# Altium schematic symbol library YGOLib.SchLib: 14 symbols
Pins are listed as number, name and electrical type; pins without a type are passive.

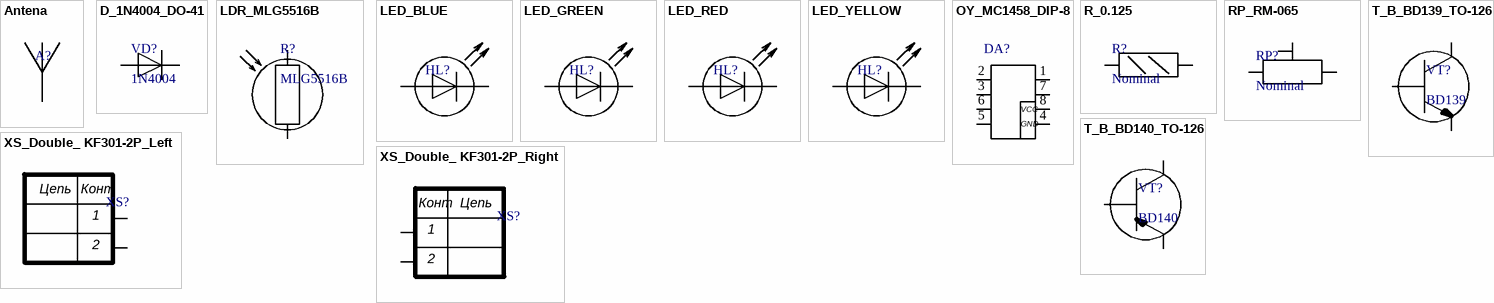
[diagram p0: symbols Antena to XS_Double_ KF301-2P_Right]

## Antena
designator A?
footprint Antenna_Omnisirectional
pins: 1 (power)

## D_1N4004_DO-41
designator VD?, comment 1N4004
footprint DO-41
pins: 1 (power), 2 (power)

## LDR_MLG5516B
designator R?, comment MLG5516B
footprint LDR_MLG5516B
pins: 1 (power), 2 (power)

## LED_BLUE
designator HL?
footprint LED_BLUE
pins: 1 (power), 2 (power)

## LED_GREEN
designator HL?
footprint LED_GREEN
pins: 1 (power), 2 (power)

## LED_RED
designator HL?
footprint LED_RED
pins: 1 (power), 2 (power)

## LED_YELLOW
designator HL?
footprint LED_YELLOW
pins: 1 (power), 2 (power)

## OY_MC1458_DIP-8
designator DA?
footprint DIP-8
pins: 1 (power), 2 (power), 3 (power), 4 GND (power), 5 (power), 6 (power), 7 (power), 8 VCC (power)

## R_0.125
designator R?, comment Nominal
footprint R_0.125
pins: 1 (power), 2 (power)

## RP_RM-065
designator RP?, comment Nominal
footprint RP_RM-065
pins: 1 (power), 2 (power), 3 (power)

## T_B_BD139_TO-126
designator VT?, comment BD139
footprint TO-136_BD139
pins: 1 Э (power), 2 К (power), 3 Б (power)

## T_B_BD140_TO-126
designator VT?, comment BD140
footprint TO-136_BD140
pins: 1 Э (power), 2 К (power), 3 Б (power)

## XS_Double_ KF301-2P_Left
designator XS?
footprint XS_KF301-2P
pins: 1 (power), 2 (power)
text: Цепь; Конт

## XS_Double_ KF301-2P_Right
designator XS?
footprint XS_KF301-2P
pins: 1 (power), 2 (power)
text: Конт; Цепь